# Altium schematic symbol library Schlib1.SchLib: 1 symbol
Pins are listed as number, name and electrical type; pins without a type are passive.

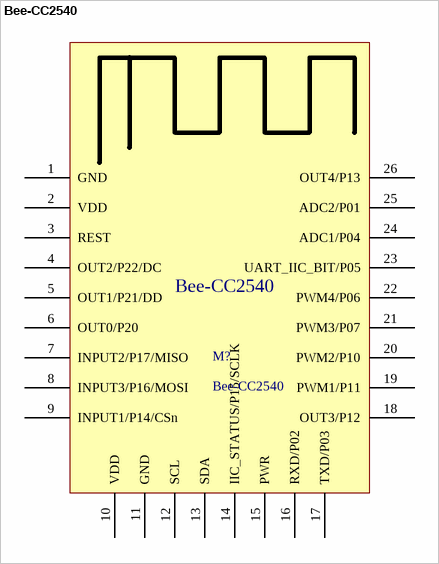
[diagram p0: symbol Bee-CC2540]

## Bee-CC2540
designator M?
footprint Bee-CC2540 (Bluetooth 4.0 Bee-CC2540)
pins: 1 GND, 2 VDD, 3 REST, 4 OUT2/P22/DC, 5 OUT1/P21/DD, 6 OUT0/P20, 7 INPUT2/P17/MISO, 8 INPUT3/P16/MOSI, 9 INPUT1/P14/CSn, 10 VDD, 11 GND, 12 SCL, 13 SDA, 14 IIC_STATUS/P15/SCLK, 15 PWR, 16 RXD/P02, 17 TXD/P03, 18 OUT3/P12, 19 PWM1/P11, 20 PWM2/P10, 21 PWM3/P07, 22 PWM4/P06, 23 UART_IIC_BIT/P05, 24 ADC1/P04, 25 ADC2/P01, 26 OUT4/P13